# EAGLE library part CN3065 (library Elecrow_IC)
USB-Compatible Lithiumt-Ion Battery Charger with Thermal Regulation http://www.consonance-elec.com/pdf/%E6%8A%80%E6%9C%AF%E8%AF%B4%E6%98%8E%E4%B9%A6/DSC-CN3065.pdf
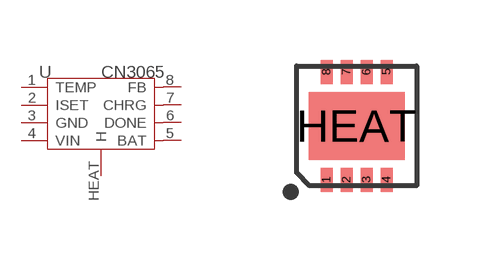
[diagram p40: symbol with the pads of DFN8; footprint DFN8]

Designator prefix U

## CN3065-DFN8  [DFN8]
1  TEMP  in
2  ISET
3  GND  sup
4  VIN  in
5  BAT
6  DONE
7  CHRG
8  FB  in
HEAT  H

## Footprint DFN8 (pad centres in mm)
smd 0.3 x 0.6: 1 -0.75,-1.35; 2 -0.25,-1.35; 3 0.25,-1.35; 4 0.75,-1.35; 5 0.75,1.35; 6 0.25,1.35; 7 -0.25,1.35; 8 -0.75,1.35
smd 2.4 x 1.7: HEAT 0,0